# EAGLE library part 6N138_6N138DIL (library MBHP_CORE_STM32F4v1.1.2)
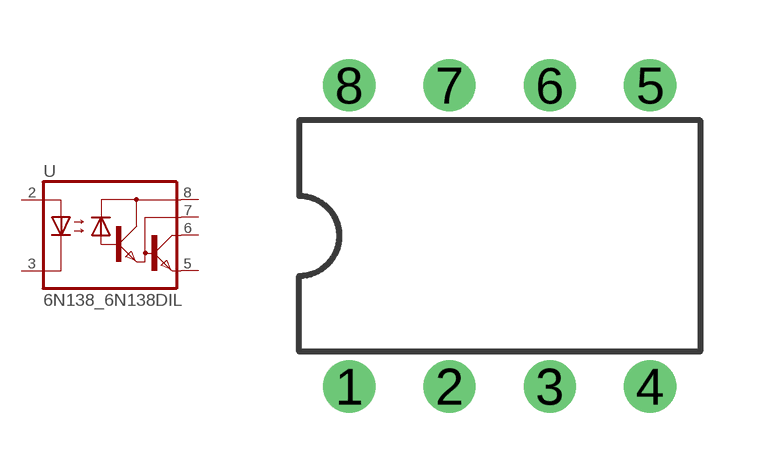
[diagram p0: symbol with the pads of 6N138_DIL08; footprint 6N138_DIL08]

Designator prefix -

## 6N138_6N138DIL  [6N138_DIL08]
2  A  pas
3  C  pas
5  GND  pas
6  VO  pas
7  VB  pas
8  VCC  pas

## Footprint 6N138_DIL08 (pad centres in mm)
drill 0.813: 1 -3.81,-3.81; 2 -1.27,-3.81; 3 1.27,-3.81; 4 3.81,-3.81; 5 3.81,3.81; 6 1.27,3.81; 7 -1.27,3.81; 8 -3.81,3.81